# Altium schematic symbol library Nevron_v4.SchLib: 48 symbols
Pins are listed as number, name and electrical type; pins without a type are passive.

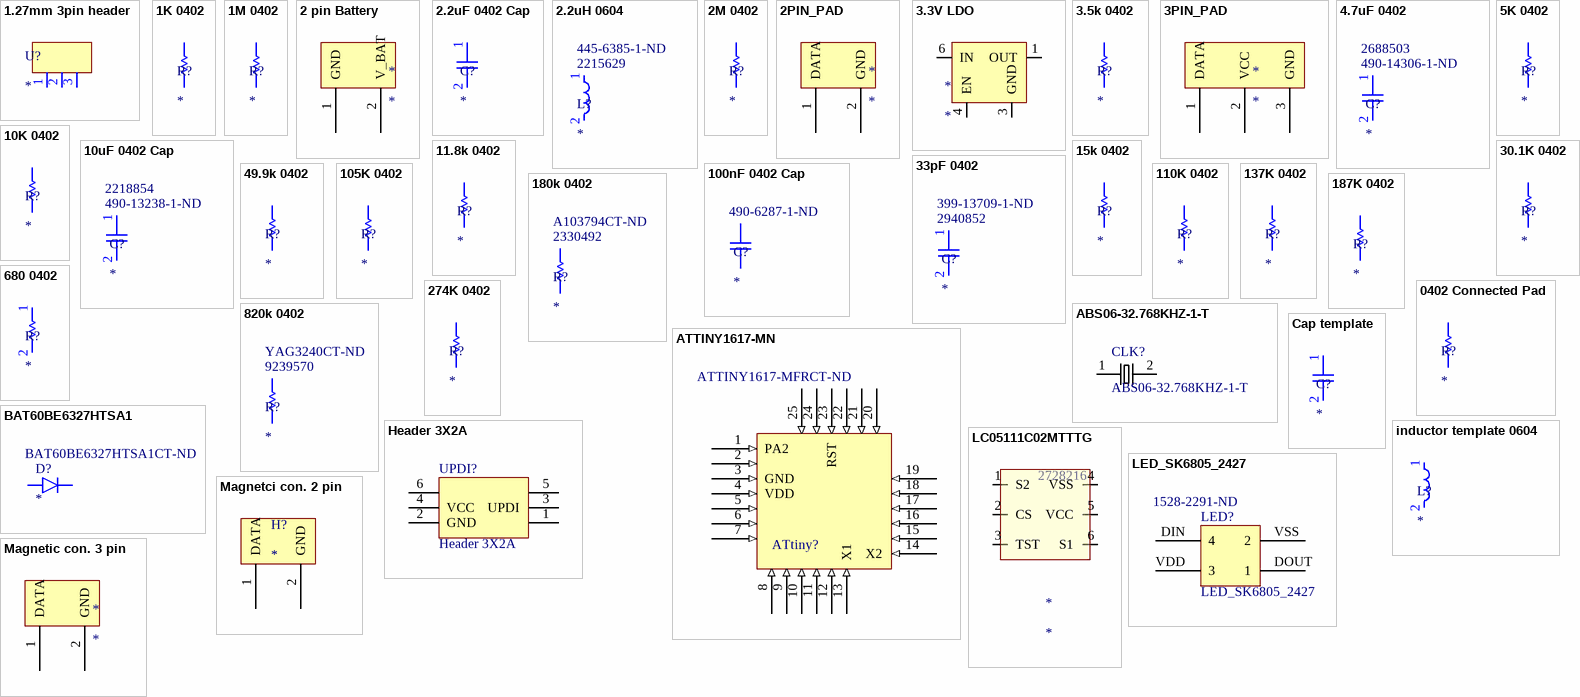
[diagram p0: symbols 1.27mm 3pin header to Magnetic con. 3 pin]

## 1.27mm 3pin header
designator U?
footprint 1.27mm 3pin header
pins: 1, 2, 3

## 1K 0402
designator R?
Supplier 1: Farnell; Supplier 2: Digi-Key; Supplier Part Number 1: 2614405; Supplier Part Number 2: MCS0402-1.00K-CFCT-ND
footprint 0402 Res
pins: 1, 2

## 1M 0402
designator R?
RES SMD 1M OHM 0.5% 1/16W 0402; Manufacturer: Vishay Dale; Manufacturer Part Number: CRCW04021M00DHEDP; Resistance: 1MR; Max Power Dissipation: 63mW; Temperature Coefficient: 50ppm/°C; Supplier 1: Digi-Key; Stock 1: 112043; Pricing 1: 1=0.3, 10=0.254, 100=0.0993, 1000=0.04158, 2500=0.03812, 5000=0.03465 (USD); Case/Package: 0402; Case Code (Metric): 1005; Case Code (Imperial): 0402; Min Operating Temperature: -55°C; Max Operating Temperature: 155°C; Package Quantity: 10000; Tolerance: 0.5%; Packaging: Tape and Reel; Composition: Thick Film; Number of Terminations: 2; Military Standard: Not; Features: Automotive AEC-Q200; Length: 0.039inch; Height: 0.016inch; Width: 0.02inch; Depth: 0.5mm; Lead Free: Lead Free; ComponentLink1URL: http://www.vishay.com/docs/20036/dcrcwpe3.pdf?src-supplier=Digi-Key; ComponentLink1Description: http://www.vishay.com/docs/20036/dcrcwpe3.pdf?src-supplier=Digi-Key; Supplier Part Number 1: 541-1.0MAVCT-ND
footprint 0402 Res
pins: 1, 2

## 2 pin Battery
designator *
footprint 2_PIN
pins: 1 GND, 2 V_BAT

## 2.2uF 0402 Cap
designator C?
footprint 0402 Cap
pins: 1, 2

## 2.2uH 0604
designator L?  Supplier Part Number 1: 2215629  Supplier Part Number 2: 445-6385-1-ND
Supplier 1: Farnell; Supplier 2: Digi-Key
footprint 0603 inductor
pins: 1, 2

## 2M 0402
designator R?
RES SMD 2M OHM 1% 1/16W 0402; Manufacturer: Vishay Dale; Manufacturer Part Number: CRCW04021M00DHEDP; Resistance: 1MR; Tolerance: 0.5%; Max Power Dissipation: 63mW; Temperature Coefficient: 50ppm/°C; Case/Package: 0402; Case Code (Metric): 1005; Case Code (Imperial): 0402; Min Operating Temperature: -55°C; Max Operating Temperature: 155°C; Package Quantity: 10000; Packaging: Tape and Reel; Composition: Thick Film; Number of Terminations: 2; Military Standard: Not; Features: Automotive AEC-Q200; Length: 0.039inch; Height: 0.016inch; Width: 0.02inch; Depth: 0.5mm; Lead Free: Lead Free; ComponentLink1URL: http://www.vishay.com/docs/20036/dcrcwpe3.pdf?src-supplier=Digi-Key; ComponentLink1Description: http://www.vishay.com/docs/20036/dcrcwpe3.pdf?src-supplier=Digi-Key; Supplier 1: Digi-Key; Supplier Part Number 1: 541-4066-6-ND
footprint 0402 Res
pins: 1, 2

## 2PIN_PAD
designator *
footprint 2PIN_PAD_SMALLER
pins: 1 DATA, 2 GND

## 3.3V LDO
designator *
TPS79933DRVR
footprint 3.3v LDO (TPS79933DRVR)
pins: 1 OUT, 3 GND , 4 EN, 6 IN

## 3.5k 0402
designator R?
footprint 0402 Res
pins: 1, 2

## 3PIN_PAD
designator *
footprint 3PAD
footprint 3PIN_PAD_SMALLER
pins: 1 DATA, 2 VCC, 3 GND

## 4.7uF 0402
designator C?  Supplier Part Number 1: 490-14306-1-ND  Supplier Part Number 2: 2688503
Supplier 1: Digi-Key; Supplier 2: Farnell
footprint 0402 Cap
pins: 1, 2

## 5K 0402
designator R?
footprint 0402 Res
pins: 1, 2

## 10K 0402
designator R?
Supplier 1: Digi-Key; Supplier 2: Farnell; Supplier Part Number 1: MCS0402-10.0K-CFCT-ND; Supplier Part Number 2: 2614406
footprint 0402 Res
pins: 1, 2

## 10uF 0402 Cap
designator C?  Supplier Part Number 1: 490-13238-1-ND  Supplier Part Number 2: 2218854
Supplier 1: Digi-Key; Supplier 2: Farnell
footprint 0402 Cap
pins: 1, 2

## 11.8k 0402
designator R?
footprint 0402 Res
pins: 1, 2

## 15k 0402
designator R?
footprint 0402 Res
pins: 1, 2

## 30.1K 0402
designator R?
RES SMD 30.1K OHM 0.1% 1/16W; Manufacturer: Yageo; Manufacturer Part Number: RT0402BRD0730K1L; Voltage Rating: 50V; Resistance: 30.1kR; Power Rating: 62.5mW; Temperature Coefficient: 25ppm/°C; Max Power Dissipation: 63mW; Supplier 1: Digi-Key; Stock 1: 51991; Pricing 1: 1=0.4, 10=0.29, 100=0.1159, 1000=0.0571, 2500=0.0529, 5000=0.04787 (USD); Case/Package: 0402; Case Code (Metric): 1005; Case Code (Imperial): 0402; Min Operating Temperature: -55°C; Max Operating Temperature: 125°C; Tolerance: 0.1%; Packaging: Tape and Reel; Package Quantity: 10000; Composition: Thin Film; Termination: SMD/SMT; Number of Terminations: 2; Voltage Rating (DC): 50V; Length: 0.039inch; Height: 0.014inch; Width: 0.02inch; Lead Free: Lead Free; ComponentLink1URL: http://www.mouser.com/ds/2/447/yageodocoutput-1125656.pdf?src-supplier=Mouser; ComponentLink1Description: http://www.mouser.com/ds/2/447/yageodocoutput-1125656.pdf?src-supplier=Mouser; ComponentLink2URL: http://www.yageo.com/NewPortal/yageodocoutput?fileName=/pdf/R-Chip/PYu-RT_1-to-0.05_RoHS_L_5.pdf&src-supplier=Digi-Key; ComponentLink2Description: http://www.yageo.com/NewPortal/yageodocoutput?fileName=/pdf/R-Chip/PYu-RT_1-to-0.05_RoHS_L_5.pdf&src-supplier=Digi-Key; Supplier Part Number 1: YAG4239CT-ND
pins: 1, 2

## 33pF 0402
designator C?  Supplier Part Number 1: 2940852  Supplier Part Number 2: 399-13709-1-ND
Supplier 1: Farnell; Supplier 2: Digi-Key
footprint 0402 Cap
pins: 1, 2

## 49.9k 0402
designator R?
footprint 0402 Res
pins: 1, 2

## 100nF 0402 Cap
designator C?  Supplier Part Number 1: 490-6287-1-ND
Supplier 1: Digi-Key
footprint 0402 Cap
pins: 1, 2

## 105K 0402
designator R?
RES 105K OHM 0.1% 1/10W 0402; Manufacturer: TE Connectivity; Manufacturer Part Number: RP73PF1E105KBTD; Supplier 1: Digi-Key; Stock 1: 1262; Pricing 1: 1=0.61, 10=0.464, 100=0.1952, 1000=0.10767, 2500=0.10094 (USD); Supplier Part Number 1: A127513CT-ND
pins: 1, 2

## 110K 0402
designator R?
Supplier 1: Farnell; Supplier 2: Digi-Key; Supplier Part Number 1: 2838474; Supplier Part Number 2: A127515CT-ND
footprint 0402 Res
footprint 0402 Res
pins: 1, 2

## 137K 0402
designator R?
Supplier 1: Digi-Key; Supplier 2: Farnell; Supplier Part Number 1: A127524CT-ND; Supplier Part Number 2: 3143904
footprint 0402 Res
pins: 1, 2

## 180k 0402
designator R?  Supplier Part Number 1: 2330492  Supplier Part Number 2: A103794CT-ND
Supplier 1: Farnell; Supplier 2: Digi-Key
footprint 0402 Res
pins: 1, 2

## 187K 0402
designator R?
Supplier 1: Digi-Key; Supplier Part Number 1: P187KLDKR-ND
footprint 0402 Res
pins: 1, 2

## 274K 0402
designator R?
Supplier 1: Digi-Key; Supplier Part Number 1: P27.4KLDKR-ND
footprint 0402 Res
pins: 1, 2

## 0402 Connected Pad
designator R?
footprint 0402 connected pad
pins: 1, 2

## 680 0402
designator R?
footprint 0402 Res
pins: 1, 2

## 820k 0402
designator R?  Supplier Part Number 1: 9239570  Supplier Part Number 2: YAG3240CT-ND
Supplier 1: Farnell; Supplier 2: Digi-Key
footprint 0402 Res
pins: 1, 2

## ABS06-32.768KHZ-1-T
designator CLK?
ABS06 Series 32.768 kHz Â±10 ppm 12.5 pF -40 to +85 Â°C SMT Low Profile Crystal; MF: Abracon; Package: SMD-2 Abracon; Price: 1.22 USD; MP: ABS06-32.768KHZ-1-T; Availability: Good; SnapEDA_Link: https://www.snapeda.com/parts/ABS06-32.768KHZ-1-T/Abracon%20LLC/view-part/?ref=snap; Value: *
footprint XTAL_ABS06-32.768KHZ-1-T
pins: 1, 2

## ATTINY1617-MN
designator ATtiny?  Supplier Part Number 1: ATTINY1617-MFRCT-ND
Supplier 1: Digi-Key
footprint ATtiny1617_QFN50P400X400X90_HS-25M
pins: 1 PA2 (in), 2 (in), 3 GND (in), 4 VDD (in), 5 (in), 6 (in), 7 (in), 8 (in), 9 (in), 10 (in), 11 (in), 12 (in), 13 X1 (in), 14 X2 (in), 15 (in), 16 (in), 17 (in), 18 (in), 19 (in), 20 (in), 21 (in), 22 (in), 23 RST (in), 24 (in), 25 (in)

## BAT60BE6327HTSA1
designator D?  Supplier Part Number 2: BAT60BE6327HTSA1CT-ND
Diode Schottky 10V 3A Automotive 2-Pin SOD-323 T/R; Manufacturer: Infineon; Manufacturer Part Number: BAT60BE6327HTSA1; Element Configuration: Single; Peak Non-Repetitive Surge Current: 5A; Forward Voltage: 600mV; Polarity: Standard; Supplier 1: Farnell; Stock 1: 14662; Mount: Surface Mount; Case/Package: SOD-323-2; Number of Pins: 2; Min Operating Temperature: -55°C; Max Operating Temperature: 125°C; Forward Current: 3A; Packaging: Tape and Reel; Max Repetitive Reverse Voltage (Vrrm): 10V; Average Rectified Current: 3A; Max Reverse Voltage (DC): 10V; Voltage Rating (DC): 10V; Current Rating: 3A; Output Current: 3A; Radiation Hardening: No; Lead Free: Lead Free; Halogen Free: Not Halogen Free; ComponentLink1URL: http://www.infineon.com/dgdl/bat60bseries.pdf?folderId=db3a304313d846880113def5812204a1&fileId=db3a304314dca3890115195908c50f0b&src-supplier=Avnet; ComponentLink1Description: http://www.infineon.com/dgdl/bat60bseries.pdf?folderId=db3a304313d846880113def5812204a1&fileId=db3a304314dca3890115195908c50f0b&src-supplier=Avnet; ComponentLink2URL: https://www.verical.com/server-webapp/html/getDatasheet?partID=747527&src-supplier=Verical; ComponentLink2Description: https://www.verical.com/server-webapp/html/getDatasheet?partID=747527&src-supplier=Verical; Supplier Part Number 1: 2443539; Supplier 2: Digi-Key
footprint BAT60BE6327HTSA1
pins: A, K

## Cap template
designator C?
footprint 0402 Cap
pins: 1, 2

## Header 3X2A
designator UPDI?
Header, 3-Pin, Dual row; LatestRevisionDate: 17-Jul-2002; LatestRevisionNote: Re-released for DXP Platform.; Publisher: Altium Limited
footprint HDR2X3_CEN (Connector; Header; 3x2 Position)
footprint SMD_HDR2X3_50 mil
pins: 1, 2 GND, 3 UPDI, 4 VCC, 5, 6

## inductor template 0604
designator L?
footprint 0603 template
pins: 1, 2

## LC05111C02MTTTG
designator *  Supplier Part Number 1: 2728216
Supplier 1: Farnell
footprint LC05111C02MTTTG (lipo protection)
pins: 1 S2, 2 CS, 3 TST, 4 VSS, 5 VCC, 6 S1

## LED_SK6805_2427
designator LED?  Supplier Part Number 1: 1528-2291-ND
Supplier 1: Digi-Key
footprint LED_SK6805_2427
pins: DIN 4, DOUT 1, VDD 3, VSS 2

## Magnetci con. 2 pin
designator H?
footprint Magnetic con. 2 pin
pins: 1 DATA, 2 GND

## Magnetic con. 3 pin
designator *
footprint Magnetic con.
pins: 1 DATA, 2 GND

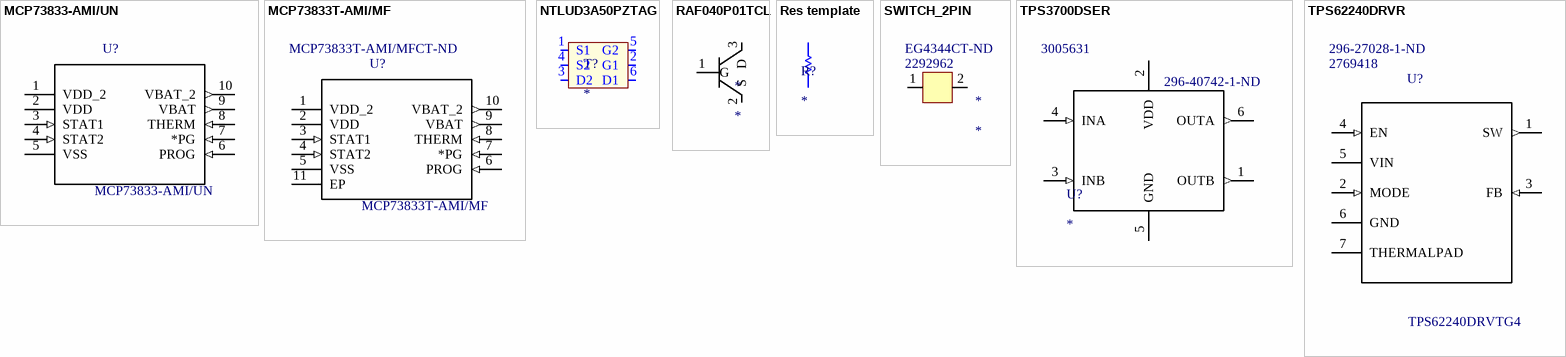
[diagram p1: symbols MCP73833-AMI/UN to TPS62240DRVR]

## MCP73833-AMI/UN
designator U?
Linear Charge Management Controller Li-Ion/Li-Pol 1mA 4.2V/4.35V/4.4V/4.5V 10-Pin MSOP Tube; MF: Microchip; MP: MCP73833-AMI/UN; Availability: Unavailable; Package: MSOP-10 Microchip; Price: None; SnapEDA_Link: https://www.snapeda.com/parts/MCP73833-AMI/UN/Microchip/view-part/?ref=snap; Value: *
footprint MCP73833_AMI_UN (LiPo charger)
pins: 1 VDD_2 (power), 2 VDD (power), 3 STAT1 (in), 4 STAT2 (in), 5 VSS, 6 PROG (in), 7 *PG (in), 8 THERM (in), 9 VBAT (out), 10 VBAT_2 (out)

## MCP73833T-AMI/MF
designator U?  Supplier Part Number 1: MCP73833T-AMI/MFCT-ND
Linear Charge Management Controller Li-Ion/Li-Pol 1mA 4.2V/4.35V/4.4V/4.5V 10-Pin DFN EP T/R; MP: MCP73833-AMI/UN; MF: Microchip; Availability: Unavailable; Package: MSOP-10 Microchip; Price: None; SnapEDA_Link: https://www.snapeda.com/parts/MCP73833-AMI/UN/Microchip/view-part/?ref=snap; Value: *; Supplier 1: Digi-Key
footprint MCP73833T-AMI/MF
pins: 1 VDD_2 (power), 2 VDD (power), 3 STAT1 (in), 4 STAT2 (in), 5 VSS, 6 PROG (in), 7 *PG (in), 8 THERM (in), 9 VBAT (out), 10 VBAT_2 (out), 11 EP

## NTLUD3A50PZTAG
designator T?
Supplier 1: Digi-Key; Supplier 2: Farnell; Supplier Part Number 1: NTLUD3A50PZTAGOSCT-ND; Supplier Part Number 2: 2724458
footprint NTLUD3A50PZTAG
pins: 1 S1, 2 G1, 3 D2, 4 S2, 5 G2, 6 D1

## RAF040P01TCL
designator *
footprint RAF040P01TCL
pins: 1 G, 2 S, 3 D

## Res template
designator R?
footprint 0402 Res
pins: 1, 2

## SWITCH_2PIN
designator *  Supplier Part Number 1: 2292962  Supplier Part Number 2: EG4344CT-ND
Supplier 1: Farnell; Supplier 2: Digi-Key
footprint SWITCH- TL1015AF160QG
pins: 1, 2

## TPS3700DSER
designator U?  Supplier Part Number 1: 296-40742-1-ND  Supplier Part Number 2: 3005631
IC COMPARATOR WINDOW; Manufacturer: Texas Instruments; Manufacturer Part Number: TPS3700DSER; Max Supply Voltage: 18V; Min Supply Voltage: 1.8V; Propagation Delay: 29us; Number of Elements: 1; Quiescent Current: 13uA; Hysteresis: 5.5mV; Input Bias Current: 25nA; Supplier 1: Digi-Key; Stock 1: 11662; Pricing 1: 1=1.84, 10=1.657, 100=1.3317, 500=1.09412, 1000=0.90655 (USD); Mount: Surface Mount; Case/Package: WFDFN; Number of Pins: 6; Min Operating Temperature: -40°C; Max Operating Temperature: 125°C; Packaging: Tape and Reel; Package Quantity: 3000; Number of Channels: 1; Max Supply Current: 13uA; Turn-On Delay Time: 29us; Radiation Hardening: No; Lead Free: Lead Free; ComponentLink1URL: http://www.ti.com/lit/gpn/tps3700?src-supplier=Mouser; ComponentLink1Description: http://www.ti.com/lit/gpn/tps3700?src-supplier=Mouser; ComponentLink2URL: http://www.ti.com/lit/ds/symlink/tps3700.pdf?src-supplier=Digi-Key; ComponentLink2Description: http://www.ti.com/lit/ds/symlink/tps3700.pdf?src-supplier=Digi-Key; ComponentLink3URL: http://www.ti.com/lit/ds/symlink/tps3700.pdf?src-supplier=Avnet; ComponentLink3Description: http://www.ti.com/lit/ds/symlink/tps3700.pdf?src-supplier=Avnet; Supplier 2: Farnell
footprint TPS3700DSER (PSON, 6-Leads, Body 1.50x1.50mm, Pitch 0.50mm, IPC Medium Density)
pins: 1 OUTB (out), 2 VDD (power) "activates over 1.85V", 3 INB (in), 4 INA (in), 5 GND, 6 OUTA (out)

## TPS62240DRVR
designator U?, comment TPS62240DRVTG4  Supplier Part Number 1: 2769418  Supplier Part Number 2: 296-27028-1-ND
Conv DC-DC 2V to 6V Synchronous Step Down Single-Out 0.6V to 6V 0.3A 6-Pin WSON EP T/R; MF: Texas Instruments; SnapEDA_Link: https://www.snapeda.com/parts/TPS62240DRVTG4/Texas%20Instruments/view-part/?ref=snap; Availability: Unavailable; Price: None; MP: TPS62240DRVTG4; Package: SON-6 Texas Instruments; Value: *; Supplier 1: Farnell; Supplier 2: Digi-Key
footprint TPS62240DRVR
pins: 1 SW (out), 2 MODE (in), 3 FB (in), 4 EN (in) "activates over 1.85V", 5 VIN (power), 6 GND, 7 THERMALPAD